# Altium integrated library Analog Devices Data Converters Digital-to-Analog Converters.IntLib: 2231 symbols (part 108 of 181)
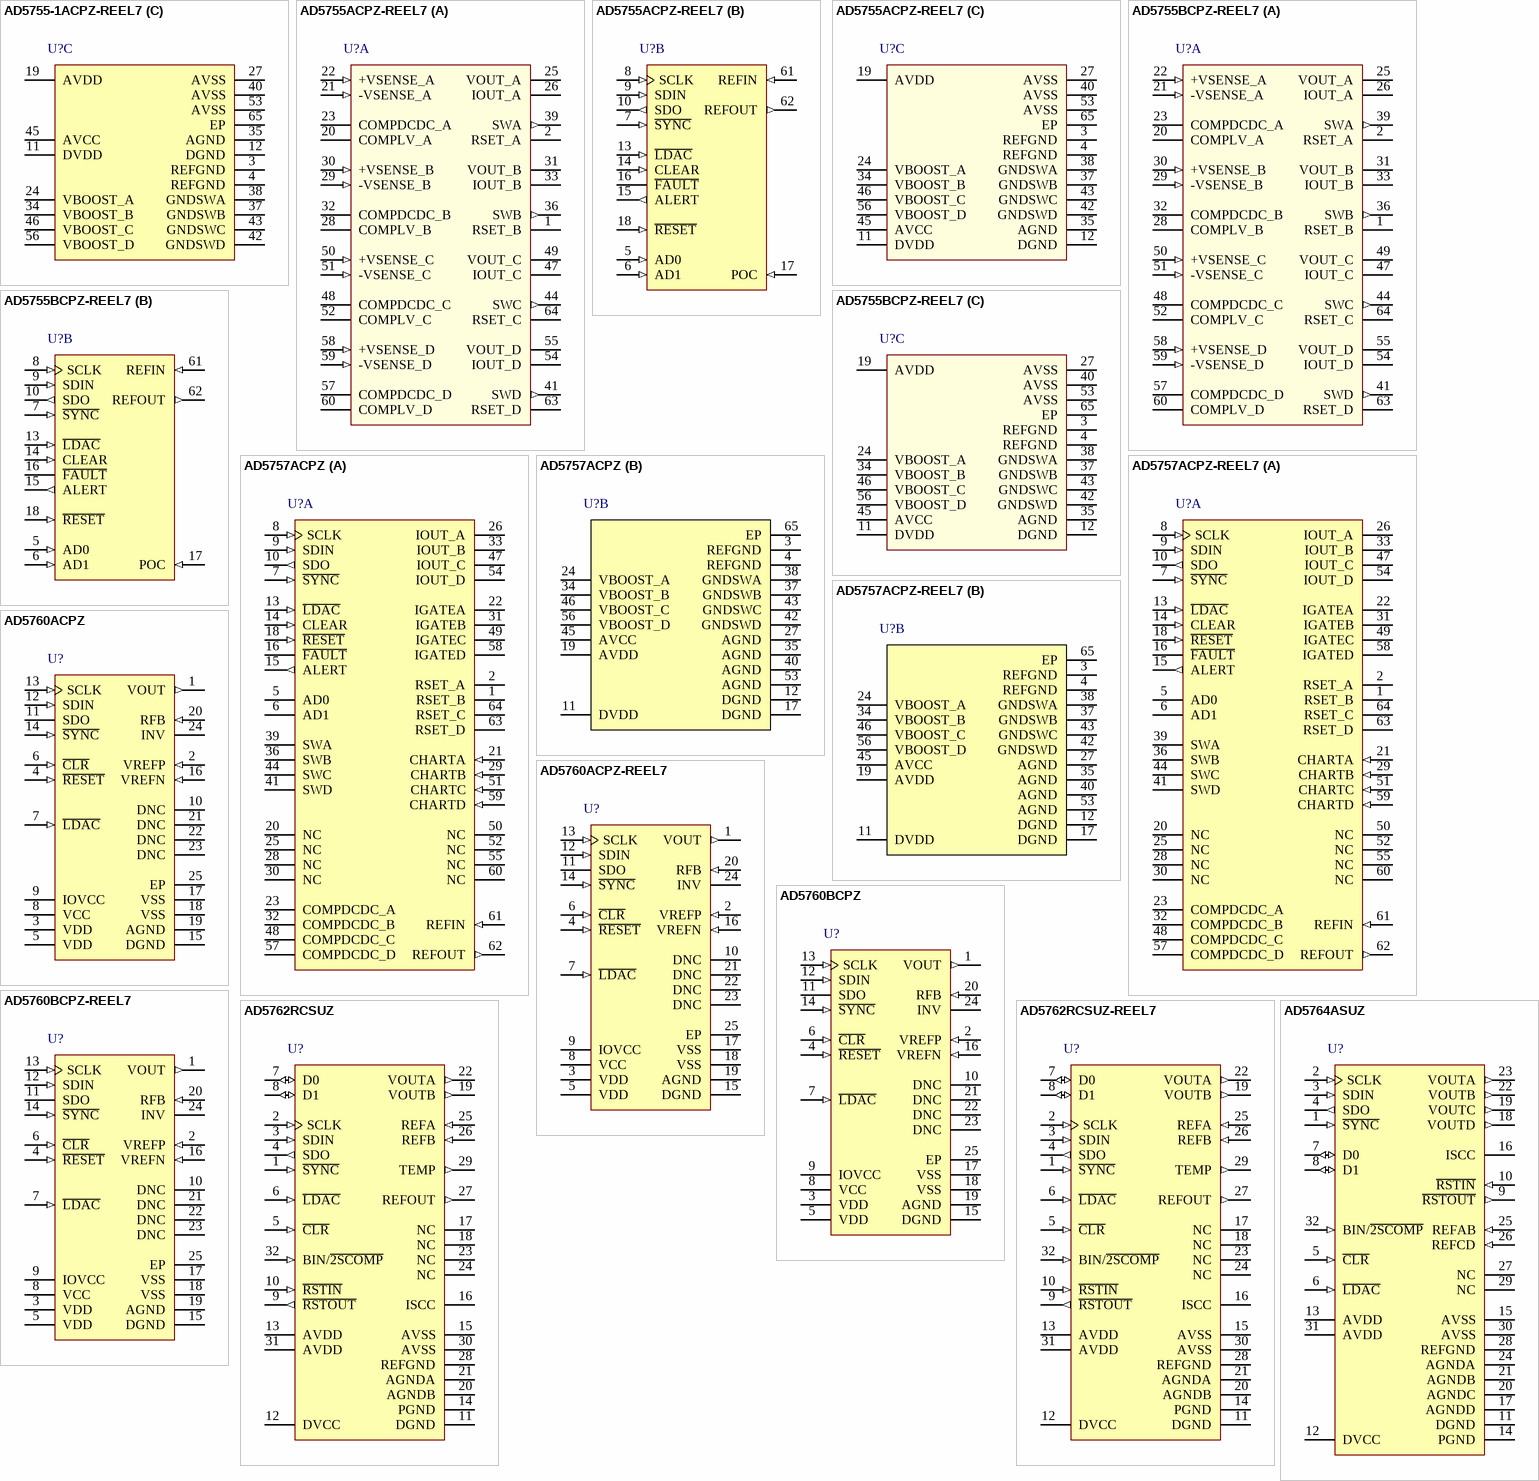
[diagram p221: symbols AD5755-1ACPZ-REEL7 to AD5764ASUZ]

## AD5757ACPZ-REEL7
designator U?
Quad 16-Bit Digital-to-Analog Converter with Serial Interface and HART Connectivity, 4 to 20 mA, -40 to +105 degC, CP-64-3, Pb-Free, Reel; Generic Part Number: AD5757; Manufacturer: Analog Devices; PartNumber: AD5757ACPZ-REEL7; # DAC Outputs: 4; Max V+: 33V; Op Pwr Diss: 155mW; Resolution (Bits): 16; Settling Time: 15µs; Single Supply: No; DatasheetVersion: Rev.C; PackageVersion: 051007-C; PackageReference: CP-64-3; PackageDescription: 64-Lead Lead Frame Chip Scale Package [LFCSP_VQ] 9 x 9 mm Body, Very Thin Quad; Supplier 1: Digi-Key; Supplier Part Number 1: AD5757ACPZ-REEL7-ND; Supplier 2: Mouser; Supplier Part Number 2: 584-AD5757ACPZ-R7; Packing: Reel; RoHS: Y; Mounting Technology: Surface Mount; Code_JEDEC: MO-220-VMMD-4; ComponentLink1Description: Manufacturer URL; ComponentLink1URL: http://www.analog.com/en/index.html; ComponentLink2Description: Datasheet; ComponentLink2URL: http://www.analog.com/static/imported-files/data_sheets/AD5757.pdf; ComponentLink3Description: Package Specification; ComponentLink3URL: http://www.analog.com/static/imported-files/packages/PKG_PDF/LFCSP(CP)/CP_64_3.pdf; ComponentLink4Description: Product URL; ComponentLink4URL: http://www.analog.com/en/digital-to-analog-converters/da-converters/ad5757/products/product.html
footprint CP-64-3_N (QFN, 64-Leads, Body 9x9mm, Pitch 0.5mm, Thermal Pad 7.1x7.1mm, IPC Medium Density)
footprint CP-64-3_L (QFN, 64-Leads, Body 9x9mm, Pitch 0.5mm, Thermal Pad 7.1x7.1mm, IPC High Density)
footprint CP-64-3_M (QFN, 64-Leads, Body 9x9mm, Pitch 0.5mm, Thermal Pad 7.1x7.1mm, IPC Low Density)
part A pins: 1 RSET_B "An external, precision, low drift 15 k ohm current setting resistor can be connected to this pin to improve the IOUT_B temperature drift performance. See the Device Features section.", 2 RSET_A "An external, precision, low drift 15 k ohm current setting resistor can be connected to this pin to improve the IOUT_A temperature drift performance. See the Device Features section.", 5 AD0 "Address Decode for the Device Under Test (DUT) on the Board.", 6 AD1 "Address Decode for the DUT on the Board.", 7 ~{SYNC} (in) "Active Low Input. This is the frame synchronization signal for the serial interface. While S\Y\N\C\ is low, data is transferred in on the falling edge of SCLK.", 8 SCLK (in) "Serial Clock Input. Data is clocked into the input shift register on the falling edge of SCLK. This pin operates at clock speeds of up to 30 MHz.", 9 SDIN (in) "Serial Data Input. Data must be valid on the falling edge of SCLK.", 10 SDO (out) "Serial Data Output. Used to clock data from the serial register in readback mode. See Figure 4 and Figure 5.", 13 ~{LDAC} (in) "Load DAC, Active Low Input. This is used to update the DAC register and consequently the DAC outputs. When tied permanently low, the addressed DAC data register is updated on the rising edge of S\Y\N\C\. If L\D\A\C\ is held (See Datasheet)", 14 CLEAR (in) "Active High, Edge Sensitive Input. Asserting this pin sets the output current and voltage to the preprogrammed clear code bit setting. Only channels enabled to be cleared are cleared. See the Device Features section for more (See Datasheet)", 15 ALERT (out) "Active High Output. This pin is asserted when there has been no SPI activity on the interface pins for a predetermined time. See the Device Features section for more information.", 16 ~{FAULT} (oc) "Active Low Output. This pin is asserted low when an open circuit in current mode is detected, a short circuit in voltage mode is detected, a PEC error is detected, or an overtemperature is detected (see the Device Features (See Datasheet)", 18 ~{RESET} (in) "Hardware Reset. Active Low Input", 20 NC "No Connect. Do not connect to this pin.", 21 CHARTA (in) "HART Input Connection for DAC Channel A.", 22 IGATEA "Optional Connection for External Pass Transistor. Should be left unconnected when using the dc-to-dc converter. See the External PMOS Mode section for more information.", 23 COMPDCDC_A "DC-to-DC Compensation Capacitor. Connect a 10 nF capacitor from this pin to ground. Used to regulate the feedback loop of the Channel A dc-to-dc converter. Alternatively, if using an external compensation resistor, place a (See Datasheet)", 25 NC "No Connect. Do not connect to this pin.", 26 IOUT_A (hiz) "Current Output Pin for DAC Channel A", 28 NC "No Connect. Do not connect to this pin.", 29 CHARTB (in) "HART Input Connection for DAC Channel B.", 30 NC "No Connect. Do not connect to this pin.", 31 IGATEB "Optional Connection for External Pass Transistor. Should be left unconnected when using the dc-to-dc converter. See the External PMOS Mode section for more information.", 32 COMPDCDC_B "DC-to-DC Compensation Capacitor. Connect a 10 nF capacitor from this pin to ground. Used to regulate the feedback loop of the Channel B dc-to-dc converter. Alternatively, if using an external compensation resistor, place a (See Datasheet)", 33 IOUT_B (hiz) "Current Output Pin for DAC Channel B.", 36 SWB "Switching Output for Channel B DC-to-DC Circuitry. To use the dc-to-dc feature of the device, connect as shown in Figure 56.", 39 SWA "Switching Output for Channel A DC-to-DC Circuitry. To use the dc-to-dc feature of the device, connect as shown in Figure 56.", 41 SWD "Switching Output for Channel D DC-to-DC Circuitry. To use the dc-to-dc feature of the device, connect as shown in Figure 56.", 44 SWC "Switching Output for Channel C DC-to-DC Circuitry. To use the dc-to-dc feature of the device, connect as shown in Figure 56.", 47 IOUT_C (hiz) "Current Output Pin for DAC Channel C.", 48 COMPDCDC_C "DC-to-DC Compensation Capacitor. Connect a 10 nF capacitor from this pin to ground. Used to regulate the feedback loop of the Channel C dc-to-dc converter. Alternatively, if using an external compensation resistor, place a (See Datasheet)", 49 IGATEC "Optional Connection for External Pass Transistor. Should be left unconnected when using the dc-to-dc converter. See the External PMOS Mode section for more information.", 50 NC "No Connect. Do not connect to this pin.", 51 CHARTC (in) "HART Input Connection for DAC Channel C.", 52 NC "No Connect. Do not connect to this pin.", 54 IOUT_D (hiz) "Current Output Pin for DAC Channel D.", 55 NC "No Connect. Do not connect to this pin.", 57 COMPDCDC_D "DC-to-DC Compensation Capacitor. Connect a 10 nF capacitor from this pin to ground. Used to regulate the feedback loop of the Channel D dc-to-dc converter. Alternatively, if using an external compensation resistor, place a (See Datasheet)", 58 IGATED "Optional Connection for External Pass Transistor. Should be left unconnected when using the dc-to-dc converter. See the External PMOS Mode section for more information", 59 CHARTD (in) "HART Input Connection for DAC Channel D.", 60 NC "No Connect. Do not connect to this pin.", 61 REFIN (in) "External Reference Voltage Input.", 62 REFOUT (out) "Internal Reference Voltage Output. It is recommended to place a 0.1 uF capacitor between REFOUT and REFGND.", 63 RSET_D "An external, precision, low drift 15 k ohm current setting resistor can be connected to this pin to improve the IOUT_D temperature drift performance. See the Device Features section.", 64 RSET_C "An external, precision, low drift 15 k ohm current setting resistor can be connected to this pin to improve the IOUT_C temperature drift performance. See the Device Features section."
part B pins: 3 REFGND (power) "Ground Reference Point for Internal Reference.", 4 REFGND (power) "Ground Reference Point for Internal Reference.", 11 DVDD (power) "Digital Supply. The voltage range is from 2.7 V to 5.5 V.", 12 DGND (power) "Digital Ground.", 17 DGND (power) "Digital Ground.", 19 AVDD (power) "Positive Analog Supply. The voltage range is from 10.8 V to 33 V.", 24 VBOOST_A (power) "Supply for Channel A Current Output Stage (see Figure 49). To use the dc-to-dc feature of the device, connect as shown in Figure 56.", 27 AGND (power) "Ground Reference Point for Analog Circuitry. This must be connected to 0 V.", 34 VBOOST_B (power) "Supply for Channel B Current Output Stage (see Figure 49). To use the dc-to-dc feature of the device, connect as shown in Figure 56.", 35 AGND (power) "Ground Reference Point for Analog Circuitry. This pin must be connected to 0 V", 37 GNDSWB (power) "Ground Connection for DC-to-DC Switching Circuit. This pin should always be connected to ground.", 38 GNDSWA (power) "Ground Connection for DC-to-DC Switching Circuit. This pin should always be connected to ground.", 40 AGND (power) "Ground Reference Point for Analog Circuitry. This must be connected to 0 V.", 42 GNDSWD (power) "Ground Connections for DC-to-DC Switching Circuit. This pin should always be connected to ground.", 43 GNDSWC (power) "Ground Connections for DC-to-DC Switching Circuit. This pin should always be connected to ground.", 45 AVCC (power) "Supply for DC-to-DC Circuitry.", 46 VBOOST_C (power) "Supply for Channel C Current Output Stage (see Figure 49). To use the dc-to-dc feature of the device, connect as shown in Figure 56.", 53 AGND (power) "Ground Reference Point for Analog Circuitry. This must be connected to 0 V.", 56 VBOOST_D (power) "Supply for Channel D Current Output Stage (see Figure 49). To use the dc-to-dc feature of the device, connect as shown in Figure 56", 65 EP (power) "Exposed Pad. This exposed pad should be connected to AGND, or, alternatively, it can be left electrically unconnected. It is recommended that the pad be thermally connected to a copper plane for enhanced thermal performance."

## AD5760ACPZ
designator U?
Single 16-Bit Ultra Stable Voltage Output Digital-to-Analog Converter, + / -0.5 LSB INL, -40 to +125 degC, CP-24-5, Pb-Free, Tray; Generic Part Number: AD5760; Manufacturer: Analog Devices; PartNumber: AD5760ACPZ; # DAC Outputs: 1; Max V+: 16.5V; Resolution (Bits): 16; Settling Time: 2.5µs; Single Supply: No; DatasheetVersion: Rev.B; PackageVersion: 04-11-2012-B; PackageReference: CP-24-5; PackageDescription: 24-Lead Lead Frame Chip Scale Package [LFCSP_VQ] 4 x 5 mm Body, Very Thin Quad; Supplier 1: Digi-Key; Supplier Part Number 1: AD5760ACPZ-ND; Supplier 2: Farnell; Supplier Part Number 2: 2077685; Supplier 3: Newark; Supplier Part Number 3: 76T1800; Supplier 4: Mouser; Supplier Part Number 4: 584-AD5760ACPZ; Packing: Tray; RoHS: Y; Mounting Technology: Surface Mount; ComponentLink1Description: Manufacturer URL; ComponentLink1URL: http://www.analog.com/en/index.html; ComponentLink2Description: Datasheet; ComponentLink2URL: http://www.analog.com/static/imported-files/data_sheets/AD5760.pdf; ComponentLink3Description: Package Specification; ComponentLink3URL: http://www.analog.com/static/imported-files/packages/PKG_PDF/LFCSP(CP)/CP_24_5.pdf; ComponentLink4Description: Product URL; ComponentLink4URL: http://www.analog.com/en/digital-to-analog-converters/da-converters/ad5760/products/product.html
footprint CP-24-5_N (QFN, 24-Leads, Body 4x5mm, Pitch 0.5mm, Thermal Pad 2.65x3.65mm, IPC Medium Density)
footprint CP-24-5_L (QFN, 24-Leads, Body 4x5mm, Pitch 0.5mm, Thermal Pad 2.65x3.65mm, IPC High Density)
footprint CP-24-5_M (QFN, 24-Leads, Body 4x5mm, Pitch 0.5mm, Thermal Pad 2.65x3.65mm, IPC Low Density)
pins: 1 VOUT (out) "Analog Output Voltage.", 2 VREFP (in) "Positive Reference Voltage Input. A voltage in the range of 5 V to VDD - 2.5 V can be connected to this pin.", 3 VDD (power) "Positive Analog Supply Connection. A voltage in the range of 7.5 V to 16.5 V can be connected to this pin. VDD must be decoupled to AGND.", 4 ~{RESET} (in) "Active Low Reset. Asserting this pin returns the AD5760 to its power-on status.", 5 VDD (power) "Positive Analog Supply Connection. A voltage in the range of 7.5 V to 16.5 V can be connected to this pin. VDD must be decoupled to AGND.", 6 ~{CLR} (in) "Active Low Input. Asserting this pin sets the DAC register to a user defined value (see Table 12) and updates the DAC output. The output value depends on the DAC register coding that is being used, either binary or twos (See Datasheet)", 7 ~{LDAC} (in) "Active Low Load DAC Logic Input. This pin is used to update the DAC register and, consequently, the analog output. When tied permanently low, the output is updated on the rising edge of S\Y\N\C\. If L\D\A\C\ is held high (See Datasheet)", 8 VCC (power) "Digital Supply. Voltage range is from 2.7 V to 5.5 V. VCC should be decoupled to DGND.", 9 IOVCC (power) "Digital Interface Supply. Digital threshold levels are referenced to the voltage applied to this pin. Voltage range is from 1.71 V to 5.5 V.", 10 DNC "Do Not Connect. Do not connect to these pins.", 11 SDO (hiz) "Serial Data Output.", 12 SDIN (in) "Serial Data Input. This device has a 24-bit input shift register. Data is clocked into the register on the falling edge of the serial clock input.", 13 SCLK (in) "Serial Clock Input. Data is clocked into the input shift register on the falling edge of the serial clock input. Data can be transferred at rates of up to 35 MHz.", 14 ~{SYNC} (in) "Level Triggered Control Input (Active Low). This is the frame synchronization signal for the input data. When S\Y\N\C\ goes low, it enables the input shift register, and data is then transferred in on the falling edges of (See Datasheet)", 15 DGND (power) "Ground Reference Pin for Digital Circuitry.", 16 VREFN (in) "Negative Reference Voltage Input.", 17 VSS (power) "Negative Analog Supply Connection. A voltage in the range of -16.5 V to -2.5 V can be connected to this pin. VSS must be decoupled to AGND.", 18 VSS (power) "Negative Analog Supply Connection. A voltage in the range of -16.5 V to -2.5 V can be connected to this pin. VSS must be decoupled to AGND.", 19 AGND (power) "Ground Reference Pin for Analog Circuitry.", 20 RFB (in) "Feedback Connection for External Amplifier. See the AD5760 Features section for further details.", 21 DNC "Do Not Connect. Do not connect to these pins.", 22 DNC "Do Not Connect. Do not connect to these pins.", 23 DNC "Do Not Connect. Do not connect to these pins.", 24 INV "Inverting Input Connection for External Amplifier. See the AD5760 Features section for further details.", 25 EP (power) "Negative Analog Supply Connection (VSS). A voltage in the range of -16.5 V to -2.5 V can be connected to this pin. VSS must be decoupled to AGND. The paddle can be left electrically unconnected provided that a supply (See Datasheet)"

## AD5760ACPZ-REEL7
designator U?
Single 16-Bit Ultra Stable Voltage Output Digital-to-Analog Converter, + / -0.5 LSB INL, -40 to +125 degC, CP-24-5, Pb-Free, Reel; Generic Part Number: AD5760; Manufacturer: Analog Devices; PartNumber: AD5760ACPZ-REEL7; # DAC Outputs: 1; Max V+: 16.5V; Resolution (Bits): 16; Settling Time: 2.5µs; Single Supply: No; DatasheetVersion: Rev.B; PackageVersion: 04-11-2012-B; PackageReference: CP-24-5; PackageDescription: 24-Lead Lead Frame Chip Scale Package [LFCSP_VQ] 4 x 5 mm Body, Very Thin Quad; Supplier 1: Digi-Key; Supplier Part Number 1: AD5760ACPZ-REEL7-ND; Supplier 2: Mouser; Supplier Part Number 2: 584-AD5760ACPZ-R7; Packing: Reel; RoHS: Y; Mounting Technology: Surface Mount; ComponentLink1Description: Manufacturer URL; ComponentLink1URL: http://www.analog.com/en/index.html; ComponentLink2Description: Datasheet; ComponentLink2URL: http://www.analog.com/static/imported-files/data_sheets/AD5760.pdf; ComponentLink3Description: Package Specification; ComponentLink3URL: http://www.analog.com/static/imported-files/packages/PKG_PDF/LFCSP(CP)/CP_24_5.pdf; ComponentLink4Description: Product URL; ComponentLink4URL: http://www.analog.com/en/digital-to-analog-converters/da-converters/ad5760/products/product.html
footprint CP-24-5_N (QFN, 24-Leads, Body 4x5mm, Pitch 0.5mm, Thermal Pad 2.65x3.65mm, IPC Medium Density)
footprint CP-24-5_L (QFN, 24-Leads, Body 4x5mm, Pitch 0.5mm, Thermal Pad 2.65x3.65mm, IPC High Density)
footprint CP-24-5_M (QFN, 24-Leads, Body 4x5mm, Pitch 0.5mm, Thermal Pad 2.65x3.65mm, IPC Low Density)
pins: 1 VOUT (out) "Analog Output Voltage.", 2 VREFP (in) "Positive Reference Voltage Input. A voltage in the range of 5 V to VDD - 2.5 V can be connected to this pin.", 3 VDD (power) "Positive Analog Supply Connection. A voltage in the range of 7.5 V to 16.5 V can be connected to this pin. VDD must be decoupled to AGND.", 4 ~{RESET} (in) "Active Low Reset. Asserting this pin returns the AD5760 to its power-on status.", 5 VDD (power) "Positive Analog Supply Connection. A voltage in the range of 7.5 V to 16.5 V can be connected to this pin. VDD must be decoupled to AGND.", 6 ~{CLR} (in) "Active Low Input. Asserting this pin sets the DAC register to a user defined value (see Table 12) and updates the DAC output. The output value depends on the DAC register coding that is being used, either binary or twos (See Datasheet)", 7 ~{LDAC} (in) "Active Low Load DAC Logic Input. This pin is used to update the DAC register and, consequently, the analog output. When tied permanently low, the output is updated on the rising edge of S\Y\N\C\. If L\D\A\C\ is held high (See Datasheet)", 8 VCC (power) "Digital Supply. Voltage range is from 2.7 V to 5.5 V. VCC should be decoupled to DGND.", 9 IOVCC (power) "Digital Interface Supply. Digital threshold levels are referenced to the voltage applied to this pin. Voltage range is from 1.71 V to 5.5 V.", 10 DNC "Do Not Connect. Do not connect to these pins.", 11 SDO (hiz) "Serial Data Output.", 12 SDIN (in) "Serial Data Input. This device has a 24-bit input shift register. Data is clocked into the register on the falling edge of the serial clock input.", 13 SCLK (in) "Serial Clock Input. Data is clocked into the input shift register on the falling edge of the serial clock input. Data can be transferred at rates of up to 35 MHz.", 14 ~{SYNC} (in) "Level Triggered Control Input (Active Low). This is the frame synchronization signal for the input data. When S\Y\N\C\ goes low, it enables the input shift register, and data is then transferred in on the falling edges of (See Datasheet)", 15 DGND (power) "Ground Reference Pin for Digital Circuitry.", 16 VREFN (in) "Negative Reference Voltage Input.", 17 VSS (power) "Negative Analog Supply Connection. A voltage in the range of -16.5 V to -2.5 V can be connected to this pin. VSS must be decoupled to AGND.", 18 VSS (power) "Negative Analog Supply Connection. A voltage in the range of -16.5 V to -2.5 V can be connected to this pin. VSS must be decoupled to AGND.", 19 AGND (power) "Ground Reference Pin for Analog Circuitry.", 20 RFB (in) "Feedback Connection for External Amplifier. See the AD5760 Features section for further details.", 21 DNC "Do Not Connect. Do not connect to these pins.", 22 DNC "Do Not Connect. Do not connect to these pins.", 23 DNC "Do Not Connect. Do not connect to these pins.", 24 INV "Inverting Input Connection for External Amplifier. See the AD5760 Features section for further details.", 25 EP (power) "Negative Analog Supply Connection (VSS). A voltage in the range of -16.5 V to -2.5 V can be connected to this pin. VSS must be decoupled to AGND. The paddle can be left electrically unconnected provided that a supply (See Datasheet)"

## AD5760BCPZ
designator U?
Single 16-Bit Ultra Stable Voltage Output Digital-to-Analog Converter, + / -0.5 LSB INL, -40 to +125 degC, CP-24-5, Pb-Free, Tray; Generic Part Number: AD5760; Manufacturer: Analog Devices; PartNumber: AD5760BCPZ; # DAC Outputs: 1; Max V+: 16.5V; Resolution (Bits): 16; Settling Time: 2.5µs; Single Supply: No; DatasheetVersion: Rev.B; PackageVersion: 04-11-2012-B; PackageReference: CP-24-5; PackageDescription: 24-Lead Lead Frame Chip Scale Package [LFCSP_VQ] 4 x 5 mm Body, Very Thin Quad; Supplier 1: Digi-Key; Supplier Part Number 1: AD5760BCPZ-ND; Supplier 2: Farnell; Supplier Part Number 2: 2077684; Supplier 3: Newark; Supplier Part Number 3: 76T1802; Supplier 4: Mouser; Supplier Part Number 4: 584-AD5760BCPZ; Packing: Tray; RoHS: Y; Mounting Technology: Surface Mount; ComponentLink1Description: Manufacturer URL; ComponentLink1URL: http://www.analog.com/en/index.html; ComponentLink2Description: Datasheet; ComponentLink2URL: http://www.analog.com/static/imported-files/data_sheets/AD5760.pdf; ComponentLink3Description: Package Specification; ComponentLink3URL: http://www.analog.com/static/imported-files/packages/PKG_PDF/LFCSP(CP)/CP_24_5.pdf; ComponentLink4Description: Product URL; ComponentLink4URL: http://www.analog.com/en/digital-to-analog-converters/da-converters/ad5760/products/product.html
footprint CP-24-5_N (QFN, 24-Leads, Body 4x5mm, Pitch 0.5mm, Thermal Pad 2.65x3.65mm, IPC Medium Density)
footprint CP-24-5_L (QFN, 24-Leads, Body 4x5mm, Pitch 0.5mm, Thermal Pad 2.65x3.65mm, IPC High Density)
footprint CP-24-5_M (QFN, 24-Leads, Body 4x5mm, Pitch 0.5mm, Thermal Pad 2.65x3.65mm, IPC Low Density)
pins: 1 VOUT (out) "Analog Output Voltage.", 2 VREFP (in) "Positive Reference Voltage Input. A voltage in the range of 5 V to VDD - 2.5 V can be connected to this pin.", 3 VDD (power) "Positive Analog Supply Connection. A voltage in the range of 7.5 V to 16.5 V can be connected to this pin. VDD must be decoupled to AGND.", 4 ~{RESET} (in) "Active Low Reset. Asserting this pin returns the AD5760 to its power-on status.", 5 VDD (power) "Positive Analog Supply Connection. A voltage in the range of 7.5 V to 16.5 V can be connected to this pin. VDD must be decoupled to AGND.", 6 ~{CLR} (in) "Active Low Input. Asserting this pin sets the DAC register to a user defined value (see Table 12) and updates the DAC output. The output value depends on the DAC register coding that is being used, either binary or twos (See Datasheet)", 7 ~{LDAC} (in) "Active Low Load DAC Logic Input. This pin is used to update the DAC register and, consequently, the analog output. When tied permanently low, the output is updated on the rising edge of S\Y\N\C\. If L\D\A\C\ is held high (See Datasheet)", 8 VCC (power) "Digital Supply. Voltage range is from 2.7 V to 5.5 V. VCC should be decoupled to DGND.", 9 IOVCC (power) "Digital Interface Supply. Digital threshold levels are referenced to the voltage applied to this pin. Voltage range is from 1.71 V to 5.5 V.", 10 DNC "Do Not Connect. Do not connect to these pins.", 11 SDO (hiz) "Serial Data Output.", 12 SDIN (in) "Serial Data Input. This device has a 24-bit input shift register. Data is clocked into the register on the falling edge of the serial clock input.", 13 SCLK (in) "Serial Clock Input. Data is clocked into the input shift register on the falling edge of the serial clock input. Data can be transferred at rates of up to 35 MHz.", 14 ~{SYNC} (in) "Level Triggered Control Input (Active Low). This is the frame synchronization signal for the input data. When S\Y\N\C\ goes low, it enables the input shift register, and data is then transferred in on the falling edges of (See Datasheet)", 15 DGND (power) "Ground Reference Pin for Digital Circuitry.", 16 VREFN (in) "Negative Reference Voltage Input.", 17 VSS (power) "Negative Analog Supply Connection. A voltage in the range of -16.5 V to -2.5 V can be connected to this pin. VSS must be decoupled to AGND.", 18 VSS (power) "Negative Analog Supply Connection. A voltage in the range of -16.5 V to -2.5 V can be connected to this pin. VSS must be decoupled to AGND.", 19 AGND (power) "Ground Reference Pin for Analog Circuitry.", 20 RFB (in) "Feedback Connection for External Amplifier. See the AD5760 Features section for further details.", 21 DNC "Do Not Connect. Do not connect to these pins.", 22 DNC "Do Not Connect. Do not connect to these pins.", 23 DNC "Do Not Connect. Do not connect to these pins.", 24 INV "Inverting Input Connection for External Amplifier. See the AD5760 Features section for further details.", 25 EP (power) "Negative Analog Supply Connection (VSS). A voltage in the range of -16.5 V to -2.5 V can be connected to this pin. VSS must be decoupled to AGND. The paddle can be left electrically unconnected provided that a supply (See Datasheet)"

## AD5760BCPZ-REEL7
designator U?
Single 16-Bit Ultra Stable Voltage Output Digital-to-Analog Converter, + / -0.5 LSB INL, -40 to +125 degC, CP-24-5, Pb-Free, Reel; Generic Part Number: AD5760; Manufacturer: Analog Devices; PartNumber: AD5760BCPZ-REEL7; # DAC Outputs: 1; Max V+: 16.5V; Resolution (Bits): 16; Settling Time: 2.5µs; Single Supply: No; DatasheetVersion: Rev.B; PackageVersion: 04-11-2012-B; PackageReference: CP-24-5; PackageDescription: 24-Lead Lead Frame Chip Scale Package [LFCSP_VQ] 4 x 5 mm Body, Very Thin Quad; Supplier 1: Digi-Key; Supplier Part Number 1: AD5760BCPZ-REEL7-ND; Supplier 2: Mouser; Supplier Part Number 2: 584-AD5760BCPZ-R7; Packing: Reel; RoHS: Y; Mounting Technology: Surface Mount; ComponentLink1Description: Manufacturer URL; ComponentLink1URL: http://www.analog.com/en/index.html; ComponentLink2Description: Datasheet; ComponentLink2URL: http://www.analog.com/static/imported-files/data_sheets/AD5760.pdf; ComponentLink3Description: Package Specification; ComponentLink3URL: http://www.analog.com/static/imported-files/packages/PKG_PDF/LFCSP(CP)/CP_24_5.pdf; ComponentLink4Description: Product URL; ComponentLink4URL: http://www.analog.com/en/digital-to-analog-converters/da-converters/ad5760/products/product.html
footprint CP-24-5_N (QFN, 24-Leads, Body 4x5mm, Pitch 0.5mm, Thermal Pad 2.65x3.65mm, IPC Medium Density)
footprint CP-24-5_L (QFN, 24-Leads, Body 4x5mm, Pitch 0.5mm, Thermal Pad 2.65x3.65mm, IPC High Density)
footprint CP-24-5_M (QFN, 24-Leads, Body 4x5mm, Pitch 0.5mm, Thermal Pad 2.65x3.65mm, IPC Low Density)
pins: 1 VOUT (out) "Analog Output Voltage.", 2 VREFP (in) "Positive Reference Voltage Input. A voltage in the range of 5 V to VDD - 2.5 V can be connected to this pin.", 3 VDD (power) "Positive Analog Supply Connection. A voltage in the range of 7.5 V to 16.5 V can be connected to this pin. VDD must be decoupled to AGND.", 4 ~{RESET} (in) "Active Low Reset. Asserting this pin returns the AD5760 to its power-on status.", 5 VDD (power) "Positive Analog Supply Connection. A voltage in the range of 7.5 V to 16.5 V can be connected to this pin. VDD must be decoupled to AGND.", 6 ~{CLR} (in) "Active Low Input. Asserting this pin sets the DAC register to a user defined value (see Table 12) and updates the DAC output. The output value depends on the DAC register coding that is being used, either binary or twos (See Datasheet)", 7 ~{LDAC} (in) "Active Low Load DAC Logic Input. This pin is used to update the DAC register and, consequently, the analog output. When tied permanently low, the output is updated on the rising edge of S\Y\N\C\. If L\D\A\C\ is held high (See Datasheet)", 8 VCC (power) "Digital Supply. Voltage range is from 2.7 V to 5.5 V. VCC should be decoupled to DGND.", 9 IOVCC (power) "Digital Interface Supply. Digital threshold levels are referenced to the voltage applied to this pin. Voltage range is from 1.71 V to 5.5 V.", 10 DNC "Do Not Connect. Do not connect to these pins.", 11 SDO (hiz) "Serial Data Output.", 12 SDIN (in) "Serial Data Input. This device has a 24-bit input shift register. Data is clocked into the register on the falling edge of the serial clock input.", 13 SCLK (in) "Serial Clock Input. Data is clocked into the input shift register on the falling edge of the serial clock input. Data can be transferred at rates of up to 35 MHz.", 14 ~{SYNC} (in) "Level Triggered Control Input (Active Low). This is the frame synchronization signal for the input data. When S\Y\N\C\ goes low, it enables the input shift register, and data is then transferred in on the falling edges of (See Datasheet)", 15 DGND (power) "Ground Reference Pin for Digital Circuitry.", 16 VREFN (in) "Negative Reference Voltage Input.", 17 VSS (power) "Negative Analog Supply Connection. A voltage in the range of -16.5 V to -2.5 V can be connected to this pin. VSS must be decoupled to AGND.", 18 VSS (power) "Negative Analog Supply Connection. A voltage in the range of -16.5 V to -2.5 V can be connected to this pin. VSS must be decoupled to AGND.", 19 AGND (power) "Ground Reference Pin for Analog Circuitry.", 20 RFB (in) "Feedback Connection for External Amplifier. See the AD5760 Features section for further details.", 21 DNC "Do Not Connect. Do not connect to these pins.", 22 DNC "Do Not Connect. Do not connect to these pins.", 23 DNC "Do Not Connect. Do not connect to these pins.", 24 INV "Inverting Input Connection for External Amplifier. See the AD5760 Features section for further details.", 25 EP (power) "Negative Analog Supply Connection (VSS). A voltage in the range of -16.5 V to -2.5 V can be connected to this pin. VSS must be decoupled to AGND. The paddle can be left electrically unconnected provided that a supply (See Datasheet)"

## AD5762RCSUZ
designator U?
Dual 16-Bit High Accuracy Bipolar Voltage Output Digital-to-Analog Converter with Serial Interface, -40 to +85 degC, SU-32-2, Pb-Free, Tray; Generic Part Number: AD5762R; Manufacturer: Analog Devices; PartNumber: AD5762RCSUZ; # DAC Outputs: 2; Max V+: 16.5V; Op Pwr Diss: 250.5mW; Resolution (Bits): 16; Settling Time: 8µs; Single Supply: No; DatasheetVersion: Rev.C; PackageVersion: 2004; PackageReference: SU-32-2; PackageDescription: 32-Lead Thin Plastic Quad Flat Package [TQFP]; Supplier 1: Digi-Key; Supplier Part Number 1: AD5762RCSUZ-ND; Supplier 2: Farnell; Supplier Part Number 2: 1786051; Supplier 3: Newark; Supplier Part Number 3: 51P3757; Supplier 4: Mouser; Supplier Part Number 4: 584-AD5762RCSUZ; Packing: Tray; RoHS: Y; Mounting Technology: Surface Mount; Code_JEDEC: MS-026-ABA; ComponentLink1Description: Manufacturer URL; ComponentLink1URL: http://www.analog.com/en/index.html; ComponentLink2Description: Datasheet; ComponentLink2URL: http://www.analog.com/static/imported-files/data_sheets/AD5762R.pdf; ComponentLink3Description: Package Specification; ComponentLink3URL: http://www.analog.com/static/imported-files/packages/6298531260360306615SU_32_2.pdf; ComponentLink4Description: Product URL; ComponentLink4URL: http://www.analog.com/en/digital-to-analog-converters/da-converters/ad5762r/products/product.html
footprint SU-32-2_N (Thin QFP, 32-Leads, Body 7x7mm, Pitch 0.8mm, IPC Medium Density)
footprint SU-32-2_L (Thin QFP, 32-Leads, Body 7x7mm, Pitch 0.8mm, IPC High Density)
footprint SU-32-2_M (Thin QFP, 32-Leads, Body 7x7mm, Pitch 0.8mm, IPC Low Density)
pins: 1 ~{SYNC} (in) "Active Low Input. This is the frame synchronization signal for the serial interface. While S\Y\N\C\ is low, data is  transferred in on the falling edge of SCLK.", 2 SCLK (in) "Serial Clock Input. Data is clocked into the shift register on the falling edge of SCLK. This operates at clock speeds  of up to 30 MHz.", 3 SDIN (in) "Serial Data Input. Data must be valid on the falling edge of SCLK.", 4 SDO (out) "Serial Data Output. Used to clock data from the serial register in daisy-chain or readback mode.", 5 ~{CLR} (in) "Negative Edge Triggered Input. Asserting this pin sets the DAC registers to 0x0000.", 6 ~{LDAC} (in) "Load DAC. This logic input is used to update the DAC registers and, consequently, the analog outputs. When tied  permanently low, the addressed DAC register is updated on the rising edge of S\Y\N\C\. If L\D\A\C\ is held high (See Datasheet)", 7 D0 (io) "Digital I/O Port. D0 form a digital I/O port. The user can set up this pin as input or output that are  configurable and readable over the serial interface. When configured as input, this pin have weak internal  pull-ups to (See Datasheet)", 8 D1 (io) "Digital I/O Port. D1 form a digital I/O port. The user can set up this pin as input or output that are  configurable and readable over the serial interface. When configured as input, this pin have weak internal  pull-ups to (See Datasheet)", 9 ~{RSTOUT} (out) "Reset Logic Output. This is the output from the on-chip voltage monitor used in the reset circuit. If desired, it can  be used to control other system components.", 10 ~{RSTIN} (in) "Reset Logic Input. This input allows external access to the internal reset logic. Applying a Logic 0 to this input  clamps the DAC outputs to 0 V. In normal operation, R\S\T\I\N\ should be tied to Logic 1. Register values (See Datasheet)", 11 DGND (power) "Digital Ground Pin.", 12 DVCC (power) "Digital Supply Pin. Voltage ranges from 2.7 V to 5.25 V.", 13 AVDD (power) "Positive Analog Supply Pins. Voltage ranges from 11.4 V to 16.5 V.", 14 PGND (power) "Ground Reference Point for Analog Circuitry.", 15 AVSS (power) "Negative Analog Supply Pins. Voltage ranges from -11.4 V to -16.5 V.", 16 ISCC "This pin is used in association with an optional external resistor to AGND to program the short-circuit current of  the output amplifiers. Refer to the Design Features section for more information.", 17 NC "Do not connect to this pin.", 18 NC "Do not connect to this pin.", 19 VOUTB (out) "Analog Output Voltage of DAC B. Buffered output with a nominal full-scale output range of +/- 10 V. The output amplifier  is capable of directly driving a 10 kohm, 200 pF load.", 20 AGNDB (power) "Ground Reference Pin for DAC B Output Amplifier.", 21 AGNDA (power) "Ground Reference Pin for DAC A Output Amplifier.", 22 VOUTA (out) "Analog Output Voltage of DAC A. Buffered output with a nominal full-scale output range of +/- 10 V. The output amplifier  is capable of directly driving a 10 kohm, 200 pF load.", 23 NC "Do not connect to this pin.", 24 NC "Do not connect to this pin.", 25 REFA (in) "External Reference Voltage. The reference input range is 1 V to 7 V, and it programs the full-scale output voltage.  REFA = 5 V for specified performance.", 26 REFB (in) "External Reference Voltage. The reference input range is 1 V to 7 V, and it programs the full-scale output voltage.  REFB = 5 V for specified performance.", 27 REFOUT (out) "Reference Output. This is the reference output from the internal voltage reference. The internal reference is 5 V +/- 3 mV at 25 degC, with a reference temperature coefficient of 10 ppm/degC.", 28 REFGND (power) "Reference Ground Return for the Reference Generator and Buffers.", 29 TEMP (out) "This pin provides an output voltage proportional to temperature. The output voltage is 1.47 V typical at 25 degC die  temperature; variation with temperature is 5 mV/degC.", 30 AVSS (power) "Negative Analog Supply Pins. Voltage ranges from -11.4 V to -16.5 V.", 31 AVDD (power) "Positive Analog Supply Pins. Voltage ranges from 11.4 V to 16.5 V.", 32 BIN/~{2SCOMP} (in) "This pin determines the DAC coding. This pin should be hardwired to either DVCC or DGND. When hardwired to  DVCC, input coding is offset binary (see Table 7). When hardwired to DGND, input coding is twos complement (see  (See Datasheet)"

## AD5762RCSUZ-REEL7
designator U?
Dual 16-Bit High Accuracy Bipolar Voltage Output Digital-to-Analog Converter with Serial Interface, -40 to +85 degC, SU-32-2, Pb-Free, Reel; Generic Part Number: AD5762R; Manufacturer: Analog Devices; PartNumber: AD5762RCSUZ-REEL7; # DAC Outputs: 2; Max V+: 16.5V; Op Pwr Diss: 250.5mW; Resolution (Bits): 16; Settling Time: 8µs; Single Supply: No; DatasheetVersion: Rev.C; PackageVersion: 2004; PackageReference: SU-32-2; PackageDescription: 32-Lead Thin Plastic Quad Flat Package [TQFP]; Supplier 1: Digi-Key; Supplier Part Number 1: AD5762RCSUZ-REEL7-ND; Supplier 2: Mouser; Supplier Part Number 2: 584-AD5762RCSUZ-R7; Packing: Reel; RoHS: Y; Mounting Technology: Surface Mount; Code_JEDEC: MS-026-ABA; ComponentLink1Description: Manufacturer URL; ComponentLink1URL: http://www.analog.com/en/index.html; ComponentLink2Description: Datasheet; ComponentLink2URL: http://www.analog.com/static/imported-files/data_sheets/AD5762R.pdf; ComponentLink3Description: Package Specification; ComponentLink3URL: http://www.analog.com/static/imported-files/packages/6298531260360306615SU_32_2.pdf; ComponentLink4Description: Product URL; ComponentLink4URL: http://www.analog.com/en/digital-to-analog-converters/da-converters/ad5762r/products/product.html
footprint SU-32-2_N (Thin QFP, 32-Leads, Body 7x7mm, Pitch 0.8mm, IPC Medium Density)
footprint SU-32-2_L (Thin QFP, 32-Leads, Body 7x7mm, Pitch 0.8mm, IPC High Density)
footprint SU-32-2_M (Thin QFP, 32-Leads, Body 7x7mm, Pitch 0.8mm, IPC Low Density)
pins: 1 ~{SYNC} (in) "Active Low Input. This is the frame synchronization signal for the serial interface. While S\Y\N\C\ is low, data is  transferred in on the falling edge of SCLK.", 2 SCLK (in) "Serial Clock Input. Data is clocked into the shift register on the falling edge of SCLK. This operates at clock speeds  of up to 30 MHz.", 3 SDIN (in) "Serial Data Input. Data must be valid on the falling edge of SCLK.", 4 SDO (out) "Serial Data Output. Used to clock data from the serial register in daisy-chain or readback mode.", 5 ~{CLR} (in) "Negative Edge Triggered Input. Asserting this pin sets the DAC registers to 0x0000.", 6 ~{LDAC} (in) "Load DAC. This logic input is used to update the DAC registers and, consequently, the analog outputs. When tied  permanently low, the addressed DAC register is updated on the rising edge of S\Y\N\C\. If L\D\A\C\ is held high (See Datasheet)", 7 D0 (io) "Digital I/O Port. D0 form a digital I/O port. The user can set up this pin as input or output that are  configurable and readable over the serial interface. When configured as input, this pin have weak internal  pull-ups to (See Datasheet)", 8 D1 (io) "Digital I/O Port. D1 form a digital I/O port. The user can set up this pin as input or output that are  configurable and readable over the serial interface. When configured as input, this pin have weak internal  pull-ups to (See Datasheet)", 9 ~{RSTOUT} (out) "Reset Logic Output. This is the output from the on-chip voltage monitor used in the reset circuit. If desired, it can  be used to control other system components.", 10 ~{RSTIN} (in) "Reset Logic Input. This input allows external access to the internal reset logic. Applying a Logic 0 to this input  clamps the DAC outputs to 0 V. In normal operation, R\S\T\I\N\ should be tied to Logic 1. Register values (See Datasheet)", 11 DGND (power) "Digital Ground Pin.", 12 DVCC (power) "Digital Supply Pin. Voltage ranges from 2.7 V to 5.25 V.", 13 AVDD (power) "Positive Analog Supply Pins. Voltage ranges from 11.4 V to 16.5 V.", 14 PGND (power) "Ground Reference Point for Analog Circuitry.", 15 AVSS (power) "Negative Analog Supply Pins. Voltage ranges from -11.4 V to -16.5 V.", 16 ISCC "This pin is used in association with an optional external resistor to AGND to program the short-circuit current of  the output amplifiers. Refer to the Design Features section for more information.", 17 NC "Do not connect to this pin.", 18 NC "Do not connect to this pin.", 19 VOUTB (out) "Analog Output Voltage of DAC B. Buffered output with a nominal full-scale output range of +/- 10 V. The output amplifier  is capable of directly driving a 10 kohm, 200 pF load.", 20 AGNDB (power) "Ground Reference Pin for DAC B Output Amplifier.", 21 AGNDA (power) "Ground Reference Pin for DAC A Output Amplifier.", 22 VOUTA (out) "Analog Output Voltage of DAC A. Buffered output with a nominal full-scale output range of +/- 10 V. The output amplifier  is capable of directly driving a 10 kohm, 200 pF load.", 23 NC "Do not connect to this pin.", 24 NC "Do not connect to this pin.", 25 REFA (in) "External Reference Voltage. The reference input range is 1 V to 7 V, and it programs the full-scale output voltage.  REFA = 5 V for specified performance.", 26 REFB (in) "External Reference Voltage. The reference input range is 1 V to 7 V, and it programs the full-scale output voltage.  REFB = 5 V for specified performance.", 27 REFOUT (out) "Reference Output. This is the reference output from the internal voltage reference. The internal reference is 5 V +/- 3 mV at 25 degC, with a reference temperature coefficient of 10 ppm/degC.", 28 REFGND (power) "Reference Ground Return for the Reference Generator and Buffers.", 29 TEMP (out) "This pin provides an output voltage proportional to temperature. The output voltage is 1.47 V typical at 25 degC die  temperature; variation with temperature is 5 mV/degC.", 30 AVSS (power) "Negative Analog Supply Pins. Voltage ranges from -11.4 V to -16.5 V.", 31 AVDD (power) "Positive Analog Supply Pins. Voltage ranges from 11.4 V to 16.5 V.", 32 BIN/~{2SCOMP} (in) "This pin determines the DAC coding. This pin should be hardwired to either DVCC or DGND. When hardwired to  DVCC, input coding is offset binary (see Table 7). When hardwired to DGND, input coding is twos complement (see  (See Datasheet)"

## AD5764ASUZ
designator U?
Quad 16-Bit High Accuracy Bipolar Voltage Output Digital-to-Analog Converter with Serial Interface, -40 to +85 degC, SU-32-2, Pb-Free, Tray; Generic Part Number: AD5764; Manufacturer: Analog Devices; PartNumber: AD5764ASUZ; # DAC Outputs: 4; Max V+: 16.5V; Op Pwr Diss: 381mW; Resolution (Bits): 16; Settling Time: 8µs; Single Supply: No; DatasheetVersion: Rev.F; PackageVersion: 2004; PackageReference: SU-32-2; PackageDescription: 32-Lead Thin Plastic Quad Flat Package [TQFP]; Supplier 1: Digi-Key; Supplier Part Number 1: AD5764ASUZ-ND; Supplier 2: Newark; Supplier Part Number 2: 28M4010; Supplier 3: Mouser; Supplier Part Number 3: 584-AD5764ASUZ; Packing: Tray; RoHS: Y; Mounting Technology: Surface Mount; Code_JEDEC: MS-026-ABA; ComponentLink1Description: Manufacturer URL; ComponentLink1URL: http://www.analog.com/en/index.html; ComponentLink2Description: Datasheet; ComponentLink2URL: http://www.analog.com/static/imported-files/data_sheets/AD5764.pdf; ComponentLink3Description: Package Specification; ComponentLink3URL: http://www.analog.com/static/imported-files/packages/6298531260360306615SU_32_2.pdf; ComponentLink4Description: Product URL; ComponentLink4URL: http://www.analog.com/en/digital-to-analog-converters/da-converters/ad5764/products/product.html; ComponentLink5Description: Reference Design URL; ComponentLink5URL: http://www.analog.com/en/digital-to-analog-converters/da-converters/ad5764/products/product.html#prod_cross_sell
footprint SU-32-2_N (Thin QFP, 32-Leads, Body 7x7mm, Pitch 0.8mm, IPC Medium Density)
footprint SU-32-2_L (Thin QFP, 32-Leads, Body 7x7mm, Pitch 0.8mm, IPC High Density)
footprint SU-32-2_M (Thin QFP, 32-Leads, Body 7x7mm, Pitch 0.8mm, IPC Low Density)
pins: 1 ~{SYNC} (in) "Active Low Input. This is the frame synchronization signal for the serial interface. While S\Y\N\C\ is low, data is transferred in on the falling edge of SCLK.", 2 SCLK (in) "Serial Clock Input. Data is clocked into the input shift register on the falling edge of SCLK. This operates at clock speeds up to 30 MHz.", 3 SDIN (in) "Serial Data Input. Data must be valid on the falling edge of SCLK", 4 SDO (out) "Serial Data Output. Used to clock data from the serial register in daisy-chain or readback mode.", 5 ~{CLR} (in) "Negative Edge Triggered Input. Asserting this pin sets the data register to 0x0000. There is an internal pull-up device on this logic input. Therefore, this pin can be left floating and defaults to a Logic 1 condition.", 6 ~{LDAC} (in) "Load DAC. Logic input. This is used to update the data register and consequently the analog outputs. When tied permanently low, the addressed data register is updated on the rising edge of S\Y\N\C\. If L\D\A\C\ is held high (See Datasheet)", 7 D0 (io) "Digital I/O Port. The user can set up these pins as inputs or outputs that are configurable and readable over the serial interface. When configured as inputs, these pins have weak internal pull-ups to DVCC. When programmed (See Datasheet)", 8 D1 (io) "Digital I/O Port. The user can set up these pins as inputs or outputs that are configurable and readable over the serial interface. When configured as inputs, these pins have weak internal pull-ups to DVCC. When programmed (See Datasheet)", 9 ~{RSTOUT} (out) "Reset Logic Output. This is the output from the on-chip voltage monitor used in the reset circuit. If desired, it can be used to control other system components.", 10 ~{RSTIN} (in) "Reset Logic Input. This input allows external access to the internal reset logic. Applying a Logic 0 to this input clamps the DAC outputs to 0 V. In normal operation, R\S\T\I\N\ should be tied to Logic 1. Register values (See Datasheet)", 11 DGND (power) "Digital Ground.", 12 DVCC (power) "Digital Supply. Voltage ranges from 2.7 V to 5.25 V.", 13 AVDD (power) "Positive Analog Supply. Voltage ranges from 11.4 V to 16.5 V.", 14 PGND (power) "Ground Reference Point for Analog Circuitry.", 15 AVSS (power) "Negative Analog Supply. Voltage ranges from -11.4 V to -16.5 V.", 16 ISCC "Resistor Connection for Pin Programmable Short-Circuit Current. This pin is used in association with an optional external resistor to AGND to program the short-circuit current of the output amplifiers. Refer to the Design (See Datasheet)", 17 AGNDD (power) "Ground Reference Pin for DAC D Output Amplifier.", 18 VOUTD (out) "Analog Output Voltage of DAC D. This pin is a buffered output with a nominal full-scale output range of + /- 10 V. The output amplifier is capable of directly driving a 10 kohm, 200 pF load.", 19 VOUTC (out) "Analog Output Voltage of DAC C. This pin is a buffered output with a nominal full-scale output range of + / -10 V. The output amplifier is capable of directly driving a 10 kohm, 200 pF load.", 20 AGNDC (power) "Ground Reference Pin for DAC C Output Amplifier.", 21 AGNDB (power) "Ground Reference Pin for DAC B Output Amplifier.", 22 VOUTB (out) "Analog Output Voltage of DAC B. Buffered output with a nominal full-scale output range of +/- 10 V. The output amplifier is capable of directly driving a 10 kohm, 200pF load.", 23 VOUTA (out) "Analog Output Voltage of DAC A. Buffered output with a nominal full-scale output range of +/- 10 V. The output amplifier is capable of directly driving a 10 kohm, 200pF load.", 24 AGNDA (power) "Ground Reference Pin for DAC A Output Amplifier.", 25 REFAB (in) "External Reference Voltage Input for Channel A and Channel B. Reference input range is 1 V to 7 V; programs the full-scale output voltage. VREFIN = 5 V for specified performance.", 26 REFCD (in) "External Reference Voltage Input for Channel C and Channel D. Reference input range is 1 V to 7 V; programs the full-scale output voltage. VREFIN= 5 V for specified performance.", 27 NC "No Connect", 28 REFGND (power) "Reference Ground Return for the Reference Generator and Buffers.", 29 NC "No Connect.", 30 AVSS (power) "Negative Analog Supply. Voltage ranges from -11.4 V to -16.5 V.", 31 AVDD (power) "Positive Analog Supply. Voltage ranges from 11.4 V to 16.5 V.", 32 BIN/~{2SCOMP} (in) "Determines the DAC Coding. This pin should be hardwired to either DVCC or DGND. When hardwired to DVCC, input coding is offset binary. When hardwired to DGND, input coding is tows complement(see table 7 and table 8)."

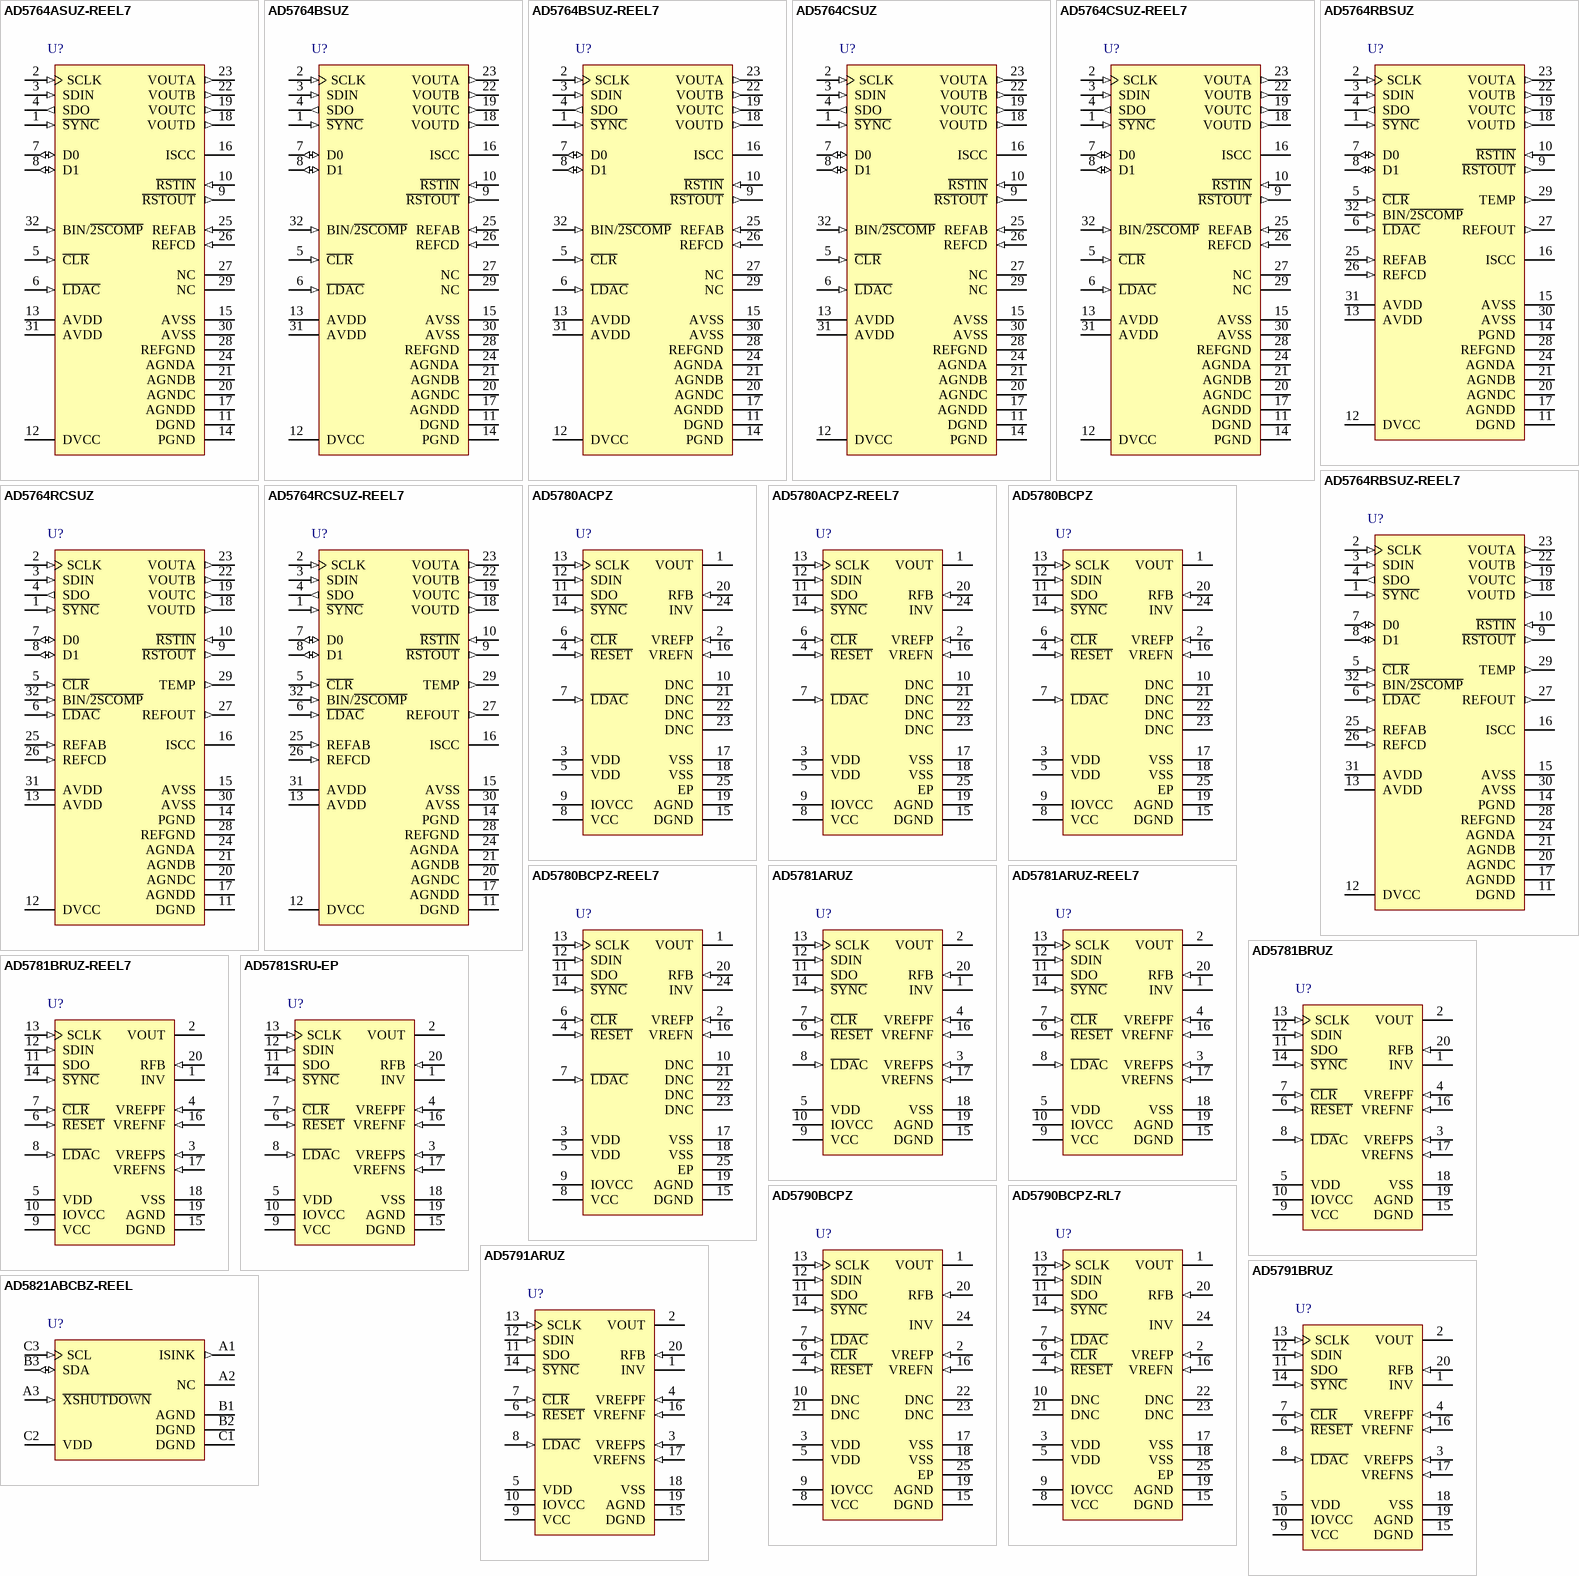
[diagram p57: symbols AD5764ASUZ-REEL7 to AD5821ABCBZ-REEL]